# Altium schematic symbol library inductors.SchLib: 38 symbols
Pins are listed as number, name and electrical type; pins without a type are passive.

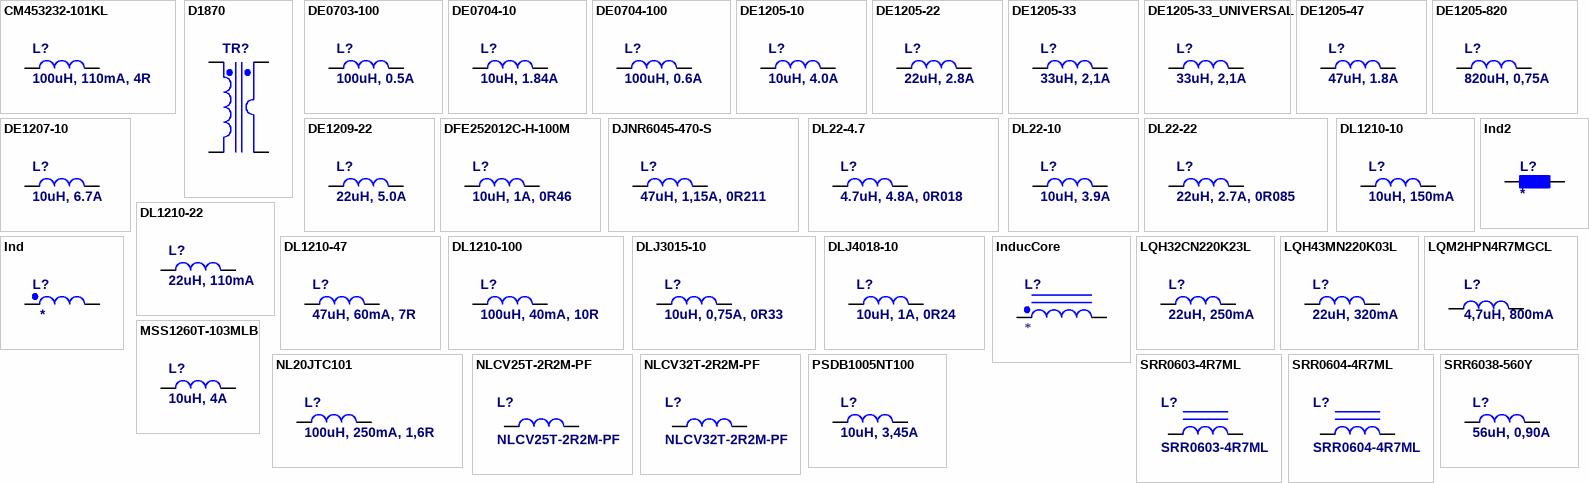
[diagram p0: symbols CM453232-101KL to SRR6038-560Y]

## CM453232-101KL
designator L?, comment 100uH, 110mA, 4R
100uH, 1812, 110mA, 4R; Published: 08-Mar-2006; ComponentLink1Description: datasheet; ComponentLink2Description: supplier; Supplier 1: TME; Supplier Part Number 1: DL1210-47; Value: 100uH, 110mA, 4R
footprint L1812 (Molded Inductor 4,5x3,2x3,2mm (EIA1812))
pins: 1, 2
1 alternate drawing of the same symbol

## D1870
designator TR?
Current Sensor; Published: 04-Apr-2006
pins: 1 Sec1-, 2 Sec1+, 17 Pri+, 18 Pri-

## DE0703-100
designator L?, comment 100uH, 0.5A
DE0703-100; Published: 08-Mar-2006; ComponentLink1Description: datasheet; ComponentLink2Description: supplier; Value: 100uH, 0.5A
footprint DE0703 (FERROCORE DE0703 (7.3x7.3mm))
pins: 1, 2
1 alternate drawing of the same symbol

## DE0704-10
designator L?, comment 10uH, 1.84A
DE0704-10; Published: 08-Mar-2006; ComponentLink1Description: datasheet; ComponentLink2Description: supplier; Value: 10uH, 1.84A
footprint DE0704 (FERROCORE DE0703 (7.3x7.3mm))
pins: 1, 2
1 alternate drawing of the same symbol

## DE0704-100
designator L?, comment 100uH, 0.6A
DE0704-100; Published: 08-Mar-2006; ComponentLink1Description: datasheet; ComponentLink2Description: supplier; Value: 100uH, 0.6A
footprint DE0704 (FERROCORE DE0703 (7.3x7.3mm))
pins: 1, 2
1 alternate drawing of the same symbol

## DE1205-10
designator L?, comment 10uH, 4.0A
DE1205-10; Published: 08-Mar-2006; ComponentLink1Description: datasheet; ComponentLink2Description: supplier; Supplier 1: TME; Supplier Part Number 1: DE1205-10; Value: 10uH, 4.0A
footprint DE1205 (FERROCORE DE1205 (12x12mm))
pins: 1, 2
1 alternate drawing of the same symbol

## DE1205-22
designator L?, comment 22uH, 2.8A
DE1205-22; Published: 08-Mar-2006; ComponentLink1Description: datasheet; ComponentLink2Description: supplier; Supplier 1: TME; Supplier Part Number 1: DE1205-22; Value: 22uH, 2.8A
footprint DE1205 (FERROCORE DE1205 (12x12mm))
pins: 1, 2
1 alternate drawing of the same symbol

## DE1205-33
designator L?, comment 33uH, 2,1A
DE1205-33; Published: 08-Mar-2006; ComponentLink1Description: datasheet; ComponentLink2Description: supplier; Supplier 1: TME; Supplier Part Number 1: DE1205-33; Value: 33uH, 2,1A
footprint DE1205 (FERROCORE DE1205 (12x12mm))
pins: 1, 2
1 alternate drawing of the same symbol

## DE1205-33_UNIVERSAL
designator L?, comment 33uH, 2,1A
DE1205-33; Published: 08-Mar-2006; ComponentLink1Description: datasheet; ComponentLink2Description: supplier; Supplier 1: TME; Supplier Part Number 1: DE1205-33; Value: 33uH, 2,1A
footprint UNIVERSAL: DE12xx, DE07xx, DLxx,
pins: 1, 2
1 alternate drawing of the same symbol

## DE1205-47
designator L?, comment 47uH, 1.8A
DE1205-47; Published: 08-Mar-2006; ComponentLink1Description: datasheet; ComponentLink2Description: supplier; Supplier 1: TME; Supplier Part Number 1: DE1205-47; Value: 47uH, 1.8A
footprint DE1205 (FERROCORE DE1205 (12x12mm))
pins: 1, 2
1 alternate drawing of the same symbol

## DE1205-820
designator L?, comment 820uH, 0,75A
DE1205-820; Published: 08-Mar-2006; ComponentLink1Description: datasheet; ComponentLink2Description: supplier; Supplier 1: TME; Supplier Part Number 1: DE1205-33; Value: 820uH, 0,75A
footprint DE1205 (FERROCORE DE1205 (12x12mm))
pins: 1, 2
1 alternate drawing of the same symbol

## DE1207-10
designator L?, comment 10uH, 6.7A
DE1207-10; Published: 08-Mar-2006; ComponentLink1Description: datasheet; ComponentLink2Description: supplier; Supplier 1: TME; Supplier Part Number 1: DE1207-10; Value: 10uH, 6.7A
footprint DE1207 (FERROCORE DE1207 (12x12mm))
pins: 1, 2
1 alternate drawing of the same symbol

## DE1209-22
designator L?, comment 22uH, 5.0A
DE1209-22; Published: 08-Mar-2006; ComponentLink1Description: datasheet; ComponentLink2Description: supplier; Supplier 1: TME; Value: 22uH, 5.0A; Supplier Part Number 1: DE1209-22
footprint DE1209 (FERROCORE DE1209 (12x12mm))
pins: 1, 2
1 alternate drawing of the same symbol

## DFE252012C-H-100M
designator L?, comment 10uH, 1A, 0R46
10uH, 1812, 110mA, 4R; Published: 08-Mar-2006; ComponentLink1Description: datasheet; ComponentLink2Description: supplier; Value: 10uH, 1A, 0R46
footprint L1008_CHIP (Molded Inductor 2,5x2,0x1,9mm (EIA1008))
pins: 1, 2
1 alternate drawing of the same symbol

## DJNR6045-470-S
designator L?, comment 47uH, 1,15A, 0R211
DJNR6045-470-S; Published: 08-Mar-2006; ComponentLink1Description: datasheet; ComponentLink2Description: supplier; Value: 47uH, 1,15A, 0R211
footprint DJNR6045-S
pins: 1, 2
1 alternate drawing of the same symbol

## DL22-4.7
designator L?, comment 4.7uH, 4.8A, 0R018
DL22-4.7; Published: 08-Mar-2006; ComponentLink1Description: datasheet; ComponentLink2Description: supplier; Supplier 1: TME; Supplier Part Number 1: DL22-4.7; Value: 4.7uH, 4.8A, 0R018
footprint DL22 (FERROCORE DL22 (12.95x9.40mm))
pins: 1, 2
1 alternate drawing of the same symbol

## DL22-10
designator L?, comment 10uH, 3.9A
DL22-10; Published: 08-Mar-2006; ComponentLink1Description: datasheet; ComponentLink2Description: supplier; Supplier 1: TME; Supplier Part Number 1: DL22-10; Value: 10uH, 3.9A
footprint DL22 (FERROCORE DL22 (12.95x9.40mm))
pins: 1, 2
1 alternate drawing of the same symbol

## DL22-22
designator L?, comment 22uH, 2.7A, 0R085
DL22-22; Published: 08-Mar-2006; ComponentLink1Description: datasheet; ComponentLink2Description: supplier; Supplier 1: TME; Supplier Part Number 1: DL22-4.7; Value: 22uH, 2.7A, 0R085
footprint DL22 (FERROCORE DL22 (12.95x9.40mm))
pins: 1, 2
1 alternate drawing of the same symbol

## DL1210-10
designator L?, comment 10uH, 150mA
10uH, 1210, 150mA, 2R1; Published: 08-Mar-2006; ComponentLink1Description: datasheet; ComponentLink2Description: supplier; Supplier 1: TME; Supplier 2: TME; Supplier 3: TME; Supplier 4: TME; Supplier Part Number 1: DL1210-10; Supplier Part Number 2: NL322522T-100K; Supplier Part Number 3: NL322522T-101K; Supplier Part Number 4: DL1210-100; Value: 10uH, 150mA
footprint L1210 (Molded Inductor 3,2x2,5x2,4mm (EIA1210))
pins: 1, 2
1 alternate drawing of the same symbol

## DL1210-22
designator L?, comment 22uH, 110mA
22uH, 1210, 110mA, 3R7; Published: 08-Mar-2006; ComponentLink1Description: datasheet; ComponentLink2Description: supplier; Supplier 1: TME; Supplier 2: TME; Supplier 3: TME; Supplier 4: TME; Supplier Part Number 1: DL1210-22; Supplier Part Number 2: DL1210-220; Supplier Part Number 3: NL322522T-220K; Supplier Part Number 4: NL322522T-221K; Value: 22uH, 110mA
footprint L1210 (Molded Inductor 3,2x2,5x2,4mm (EIA1210))
pins: 1, 2
1 alternate drawing of the same symbol

## DL1210-47
designator L?, comment 47uH, 60mA, 7R
47uH, 1210, 60mA, 7R; Published: 08-Mar-2006; ComponentLink1Description: datasheet; ComponentLink2Description: supplier; Supplier 1: TME; Supplier Part Number 1: DL1210-47; Value: 47uH, 60mA, 7R
footprint L1210 (Molded Inductor 3,2x2,5x2,4mm (EIA1210))
pins: 1, 2
1 alternate drawing of the same symbol

## DL1210-100
designator L?, comment 100uH, 40mA, 10R
100uH, 1210, 40mA, 10R; Published: 08-Mar-2006; ComponentLink1Description: datasheet; ComponentLink2Description: supplier; Supplier 1: TME; Supplier Part Number 1: DL1210-47; Value: 100uH, 40mA, 10R
footprint L1210 (Molded Inductor 3,2x2,5x2,4mm (EIA1210))
pins: 1, 2
1 alternate drawing of the same symbol

## DLJ3015-10
designator L?, comment 10uH, 0,75A, 0R33
DLJ3015-10; Published: 08-Mar-2006; ComponentLink1Description: datasheet; ComponentLink2Description: supplier; Supplier 1: TME; Supplier Part Number 1: DLJ3015-10; Value: 10uH, 0,75A, 0R33
footprint DLJ3015 (DLJ Series Ultra Low Profile Power Inductor)
pins: 1, 2
1 alternate drawing of the same symbol

## DLJ4018-10
designator L?, comment 10uH, 1A, 0R24
DLJ4018-10; Published: 08-Mar-2006; ComponentLink1Description: datasheet; ComponentLink2Description: supplier; Supplier 1: TME; Supplier Part Number 1: DLJ4018-10; Value: 10uH, 1A, 0R24
footprint DLJ4018 (DLJ Series Ultra Low Profile Power Inductor)
pins: 1, 2
1 alternate drawing of the same symbol

## Ind
designator L?
Inductor; Published: 08-Mar-2006; ComponentLink1Description: datasheet; ComponentLink2Description: supplier; value: *
footprint L1210
footprint DL4N
footprint DLG-0504
footprint B82477 (G4473–M)
footprint ELL6SH
footprint L1206
footprint LQH4N
footprint SCDS127 (Inductor SMD 12mm)
footprint DE0703 (FERROCORE DE0703 (7.3x7.3mm))
footprint DE0704 (FERROCORE DE0703 (7.3x7.3mm))
footprint DE1205 (FERROCORE DE1205 (12x12mm))
footprint DE1207 (FERROCORE DE1207 (12x12mm))
footprint DE1209 (FERROCORE DE1209 (12x12mm))
pins: 1, 2
3 alternate drawings of the same symbol

## Ind2
designator L?
Inductor; Published: 19-Feb-2006; ComponentLink1Description: datasheet; ComponentLink2Description: supplier; Value: *
footprint L0402
footprint L0603
footprint L0805
footprint L1206
footprint L1210
footprint L1812 (Molded Inductor 4,5x3,2x3,2mm (EIA1812))
footprint L1812_2 (Molded Inductor 4,5x3,2x3,2mm (EIA1812))
pins: 1, 2
1 alternate drawing of the same symbol

## InducCore
designator L?
Magnetic-Core Inductor with Winding Polarity Marking; Published: 08-Mar-2006; ComponentLink1Description: datasheet; ComponentLink2Description: supplier; value: *
footprint IND_15_POZIOMO
footprint IND_15.4_PIONOWO
pins: 1, 2

## LQH32CN220K23L
designator L?, comment 22uH, 250mA
22uH, 1210, 250mA, 0R71, Murata LQH32C_23 Series Inductor; Published: 08-Mar-2006; ComponentLink1Description: datasheet; ComponentLink2Description: supplier; Supplier 1: Farnell; Supplier 2: TME; Supplier Part Number 1: 2082514; Supplier Part Number 2: LQH32CN220K23L; Value: 22uH, 250mA
footprint LQH32C_23/LQH32C_33 (1210 Size) (Murata LQH32C_23 & LQH32C_33 Series Inductor (1210 Size))
pins: 1, 2
1 alternate drawing of the same symbol

## LQH43MN220K03L
designator L?, comment 22uH, 320mA
22uH, 1812, 320mA 0R94, Murata LQH43M Series Inductor; Published: 08-Mar-2006; ComponentLink1Description: datasheet; ComponentLink2Description: supplier; Supplier 1: Farnell; Supplier 2: TME; Supplier 3: Farnell; Supplier Part Number 1: 2470335RL; Supplier Part Number 2: LQH43MN220K03L; Supplier Part Number 3: 2470335; Value: 22uH, 320mA
footprint LQH43M/LQH43N (1812 Size) (Murata LQH43M/LQH43N Series Inductor (1812 Size))
pins: 1, 2
1 alternate drawing of the same symbol

## LQM2HPN4R7MGCL
designator L?, comment 4,7uH, 800mA  (no BOM)
Cable PAD; Published: 14-Sep-2006
footprint L1008_CHIP (Molded Inductor 2,5x2,0x1,9mm (EIA1008))
pins: 1, 2

## MSS1260T-103MLB
designator L?, comment 10uH, 4A
MSS1260T-103MLB; Published: 08-Mar-2006; ComponentLink1Description: datasheet; ComponentLink2Description: supplier; Value: 10uH, 4A
footprint MSS1260T (12.5mm x 12.5mm, 10uH, 4A Coilcraft inductor)
pins: 1, 2

## NL20JTC101
designator L?, comment 100uH, 250mA, 1,6R
100uH, 2220, 250mA, 1,6R; Published: 08-Mar-2006; ComponentLink1Description: datasheet; ComponentLink2Description: supplier; Supplier 1: TME; Supplier Part Number 1: DL1210-47; Value: 100uH, 250mA, 1,6R
footprint L2220_3 (Molded Inductor 5,6x5,0x4,0mm (EIA2220))
pins: 1, 2
1 alternate drawing of the same symbol

## NLCV25T-2R2M-PF
designator L?
2,2uH, 20%, 390mA NLCV25  Series Inductor
footprint L1008 (Molded Inductor 2,5x2,0x1,9mm (EIA1008))
pins: 1, 2

## NLCV32T-2R2M-PF
designator L?
2,2uH, 20%, 390mA NLCV32  Series Inductor
footprint L1210 (Molded Inductor 3,2x2,5x2,4mm (EIA1210))
pins: 1, 2

## PSDB1005NT100
designator L?, comment 10uH, 3,45A
10uH, 20%, 3,45A, PSDB1005N Series Inductor; Published: 08-Mar-2006; ComponentLink1Description: datasheet; ComponentLink2Description: supplier; Supplier 1: TME; Supplier Part Number 1: PSDB1005NT100; Value: 10uH, 3,45A
footprint PSDB1005 (PSDB Series Shielded SMD Power Inductor)
pins: 1, 2
1 alternate drawing of the same symbol

## SRR0603-4R7ML
designator L?
4,7uH, 20%, 1.6A SRR0603 Series Shielded Power Inductor
footprint SRR0603 (Bourns SDM Shielded 6.5 x 3.3 mm)
pins: 1, 2

## SRR0604-4R7ML
designator L?
4,7uH, 20%, 2A SRR0604 Series Shielded Power Inductor
footprint SRR0604 (Bourns SDM Shielded 6.5 x 4.8mm)
pins: 1, 2

## SRR6038-560Y
designator L?, comment 56uH, 0,90A
56uH, 6,80x6,80x4,00mm, 900mA 0R2, Bourns SRR6038 Series Power Inductor; Published: 08-Mar-2006; ComponentLink1Description: datasheet; ComponentLink2Description: supplier; Supplier 1: Farnell; Supplier 2: Farnell; Supplier Part Number 1: 2336504; Supplier Part Number 2: 2336279; Value: 56uH, 0,90A
footprint SRR6038 (Bourns SRR6038 Series Shielded SMD Power Inductor)
pins: 1, 2
1 alternate drawing of the same symbol